# Altium schematic symbol library Memory_ROM.SchLib: 2 symbols
Pins are listed as number, name and electrical type; pins without a type are passive.

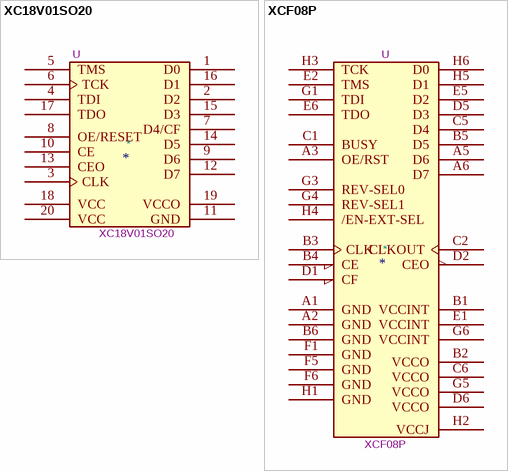
[diagram p0: symbols XC18V01SO20 to XCF08P]

## XC18V01SO20
designator *  value XC18V01SO20  Reference: U
Datasheet: xilinx/xc18v00proms.pdf
pins: 1 D0, 2 D2, 3 CLK, 4 TDI, 5 TMS, 6 TCK, 7 D4/CF, 8 OE/RESET, 9 D6, 10 CE, 11 GND, 12 D7, 13 CEO, 14 D5, 15 D3, 16 D1, 17 TDO, 18 VCC, 19 VCCO, 20 VCC

## XCF08P
designator *  value XCF08P  Reference: U
ki_keywords: PROM FLASH; ki_description: Platform Flash In-System PROM; Datasheet: https://www.xilinx.com/support/documentation/data_sheets/ds123.pdf
pins: A1 GND, A2 GND, A3 OE/RST, A5 D6, A6 D7, B1 VCCINT, B2 VCCO, B3 CLK, B4 CE, B5 D5, B6 GND, C1 BUSY, C2 CLKOUT, C5 D4, C6 VCCO, D1 CF, D2 CEO, D5 D3, D6 VCCO, E1 VCCINT, E2 TMS, E5 D2, E6 TDO, F1 GND, F5 GND, F6 GND, G1 TDI, G3 REV-SEL0, G4 REV-SEL1, G5 VCCO, G6 VCCINT, H1 GND, H2 VCCJ, H3 TCK, H4 /EN-EXT-SEL, H5 D1, H6 D0